# Altium footprint library TSSOP14_4X5X11.PcbLib: 1 footprints
Each footprint in its own frame and in the unit in brackets; x right, y up, seen from the top. Pads: shape width x height; smd on the part's side, far side on the other; paste and mask are expansions set on the pad; w line width, h text height; cw(c..) or ccw(c..) is an arc to the next point about the centre after c.
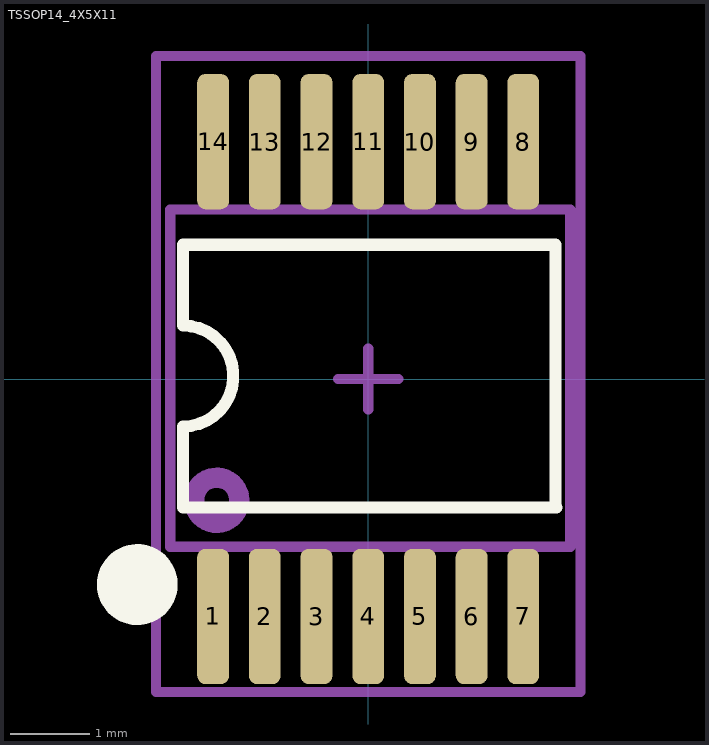
[diagram p0: the footprint, top view; thin cyan lines are the x and y axes]

## TSSOP14_4X5X11 [mm]
pads (14):
  rrect50% 0.4x1.7 smd paste+0 mask+0.05: 1(-1.95,-2.984) 2(-1.3,-2.984) 3(-0.65,-2.984) 4(0,-2.984) 5(0.65,-2.984) 6(1.3,-2.984) 7(1.95,-2.984) 8(1.95,2.985) 9(1.3,2.985) 10(0.65,2.985) 11(0,2.985) 12(-0.65,2.985) 13(-1.3,2.985) 14(-1.95,2.985)
Top Overlay:
  circle w0.508: c-2.904,-2.584 r0.254
  lines w0.152: 2.343,1.689 -2.331,1.689 -2.331,0.673 cw(c-2.331,0.038) -2.331,-0.597 -2.331,-1.613 2.368,-1.613 ; 2.353,-1.613 2.353,1.689
Top Assembly:
  circle w0.254: c-1.905,-1.524 r0.284
  lines w0.127: -2.489,-2.108 2.54,-2.108 2.54,2.134 -2.464,2.134 -2.489,2.134 -2.489,-2.108
Top Courtyard:
  lines w0.127: -0.381,0 0.381,0 ; 0,-0.381 0,0.381 ; -2.667,-3.937 2.667,-3.937 2.667,4.064 -2.667,4.064 -2.667,-3.937
3D body "SOP65P640X120-14N.stp": height 1.05, standoff 0, extent -2.5,-3.188 2.5,3.222